# EAGLE library part M16C/29(80PIN) (library renesas_mcu)
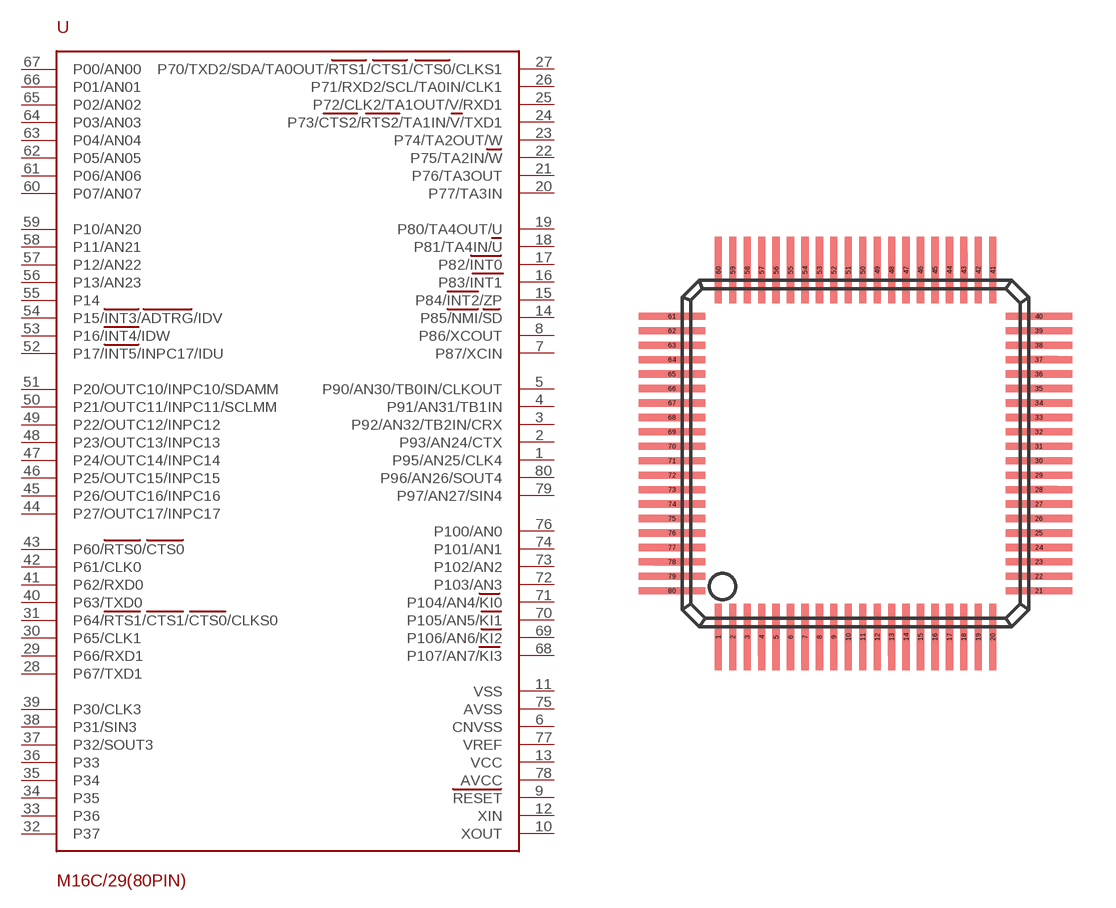
[diagram p88: symbol with the pads of 80P6Q-A; footprint 80P6Q-A]

Designator prefix -

## M16C/29(80PIN)  [80P6Q-A]
1  P95/AN25/CLK4
2  P93/AN24/CTX
3  P92/AN32/TB2IN/CRX
4  P91/AN31/TB1IN
5  P90/AN30/TB0IN/CLKOUT
6  CNVSS
7  P87/XCIN
8  P86/XCOUT
9  RESET
10  XOUT
11  VSS
12  XIN
13  VCC
14  P85/NMI/SD
15  P84/INT2/ZP
16  P83/INT1
17  P82/INT0
18  P81/TA4IN/U
19  P80/TA4OUT/U
20  P77/TA3IN
21  P76/TA3OUT
22  P75/TA2IN/W
23  P74/TA2OUT/W
24  P73/CTS2/RTS2/TA1IN/V/TXD1
25  P72/CLK2/TA1OUT/V/RXD1
26  P71/RXD2/SCL/TA0IN/CLK1
27  P70/TXD2/SDA/TA0OUT/RTS1/CTS1/CTS0/CLKS1
28  P67/TXD1
29  P66/RXD1
30  P65/CLK1
31  P64/RTS1/CTS1/CTS0/CLKS0
32  P37
33  P36
34  P35
35  P34
36  P33
37  P32/SOUT3
38  P31/SIN3
39  P30/CLK3
40  P63/TXD0
41  P62/RXD0
42  P61/CLK0
43  P60/RTS0/CTS0
44  P27/OUTC17/INPC17
45  P26/OUTC16/INPC16
46  P25/OUTC15/INPC15
47  P24/OUTC14/INPC14
48  P23/OUTC13/INPC13
49  P22/OUTC12/INPC12
50  P21/OUTC11/INPC11/SCLMM
51  P20/OUTC10/INPC10/SDAMM
52  P17/INT5/INPC17/IDU
53  P16/INT4/IDW
54  P15/INT3/ADTRG/IDV
55  P14
56  P13/AN23
57  P12/AN22
58  P11/AN21
59  P10/AN20
60  P07/AN07
61  P06/AN06
62  P05/AN05
63  P04/AN04
64  P03/AN03
65  P02/AN02
66  P01/AN01
67  P00/AN00
68  P107/AN7/KI3
69  P106/AN6/KI2
70  P105/AN5/KI1
71  P104/AN4/KI0
72  P103/AN3
73  P102/AN2
74  P101/AN1
75  AVSS
76  P100/AN0
77  VREF
78  AVCC
79  P97/AN27/SIN4
80  P96/AN26/SOUT4

## Footprint 80P6Q-A (pad centres in mm)
smd 0.25 x 2.3: 1 -4.75,-6.35; 2 -4.25,-6.35; 3 -3.75,-6.35; 4 -3.25,-6.35; 5 -2.75,-6.35; 6 -2.25,-6.35; 7 -1.75,-6.35; 8 -1.25,-6.35; 9 -0.75,-6.35; 10 -0.25,-6.35; 11 0.25,-6.35; 12 0.75,-6.35; 13 1.25,-6.35; 14 1.75,-6.35; 15 2.25,-6.35; 16 2.75,-6.35; 17 3.25,-6.35; 18 3.75,-6.35; 19 4.25,-6.35; 20 4.75,-6.35; 41 4.75,6.35; 42 4.25,6.35; 43 3.75,6.35; 44 3.25,6.35; 45 2.75,6.35; 46 2.25,6.35; 47 1.75,6.35; 48 1.25,6.35; 49 0.75,6.35; 50 0.25,6.35; 51 -0.25,6.35; 52 -0.75,6.35; 53 -1.25,6.35; 54 -1.75,6.35; 55 -2.25,6.35; 56 -2.75,6.35; 57 -3.25,6.35; 58 -3.75,6.35; 59 -4.25,6.35; 60 -4.75,6.35
smd 2.3 x 0.25: 21 6.35,-4.75; 22 6.35,-4.25; 23 6.35,-3.75; 24 6.35,-3.25; 25 6.35,-2.75; 26 6.35,-2.25; 27 6.35,-1.75; 28 6.35,-1.25; 29 6.35,-0.75; 30 6.35,-0.25; 31 6.35,0.25; 32 6.35,0.75; 33 6.35,1.25; 34 6.35,1.75; 35 6.35,2.25; 36 6.35,2.75; 37 6.35,3.25; 38 6.35,3.75; 39 6.35,4.25; 40 6.35,4.75; 61 -6.35,4.75; 62 -6.35,4.25; 63 -6.35,3.75; 64 -6.35,3.25; 65 -6.35,2.75; 66 -6.35,2.25; 67 -6.35,1.75; 68 -6.35,1.25; 69 -6.35,0.75; 70 -6.35,0.25; 71 -6.35,-0.25; 72 -6.35,-0.75; 73 -6.35,-1.25; 74 -6.35,-1.75; 75 -6.35,-2.25; 76 -6.35,-2.75; 77 -6.35,-3.25; 78 -6.35,-3.75; 79 -6.35,-4.25; 80 -6.35,-4.75